# Altium schematic symbol library AYZ0102AGRLC.SchLib: 1 symbol
Pins are listed as number, name and electrical type; pins without a type are passive.

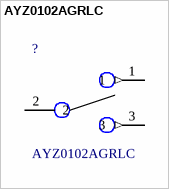
[diagram p0: symbol AYZ0102AGRLC]

## AYZ0102AGRLC
designator ?
Switch Slide ON ON SPDT Side Slide 0.1A 12VDC 1.2VA 10000Cycles Gull Wing SMD T/R; MF: C&K; MP: AYZ0102AGRLC; SnapEDA_Link: https://www.snapeda.com/parts/AYZ0102AGRLC/C%26K/view-part/?ref=snap; Availability: Unavailable; Package: None; Price: None; Value: *
footprint SW_AYZ0102AGRLC
pins: 1 (out), 2 (power), 3 (out)